# Altium schematic symbol library Zero2W.SchLib: 1 symbol
Pins are listed as number, name and electrical type; pins without a type are passive.

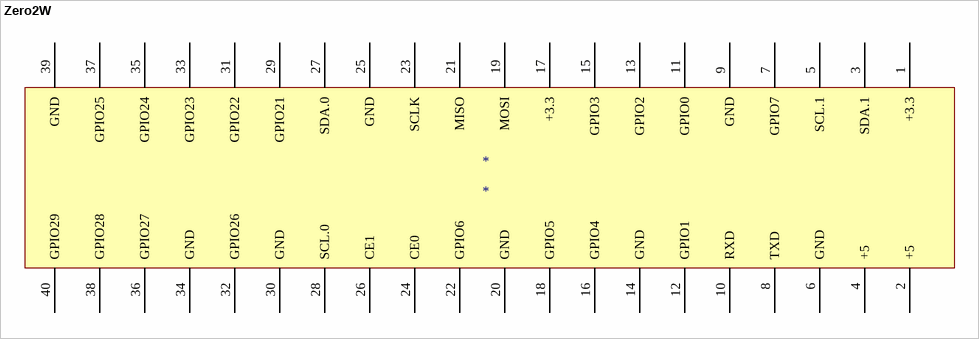
[diagram p0: symbol Zero2W]

## Zero2W
designator *
footprint Zero2W
pins: 1 +3.3, 2 +5, 3 SDA.1, 4 +5, 5 SCL.1, 6 GND, 7 GPIO7, 8 TXD, 9 GND, 10 RXD, 11 GPIO0, 12 GPIO1, 13 GPIO2, 14 GND, 15 GPIO3, 16 GPIO4, 17 +3.3, 18 GPIO5, 19 MOSI, 20 GND, 21 MISO, 22 GPIO6, 23 SCLK, 24 CE0, 25 GND, 26 CE1, 27 SDA.0, 28 SCL.0, 29 GPIO21, 30 GND, 31 GPIO22, 32 GPIO26, 33 GPIO23, 34 GND, 35 GPIO24, 36 GPIO27, 37 GPIO25, 38 GPIO28, 39 GND, 40 GPIO29